# Altium footprint library 8-XFDFN-2x3.PcbLib: 1 footprints
Each footprint in its own frame and in the unit in brackets; x right, y up, seen from the top. Pads: shape width x height; smd on the part's side, far side on the other; paste and mask are expansions set on the pad; w line width, h text height; cw(c..) or ccw(c..) is an arc to the next point about the centre after c.
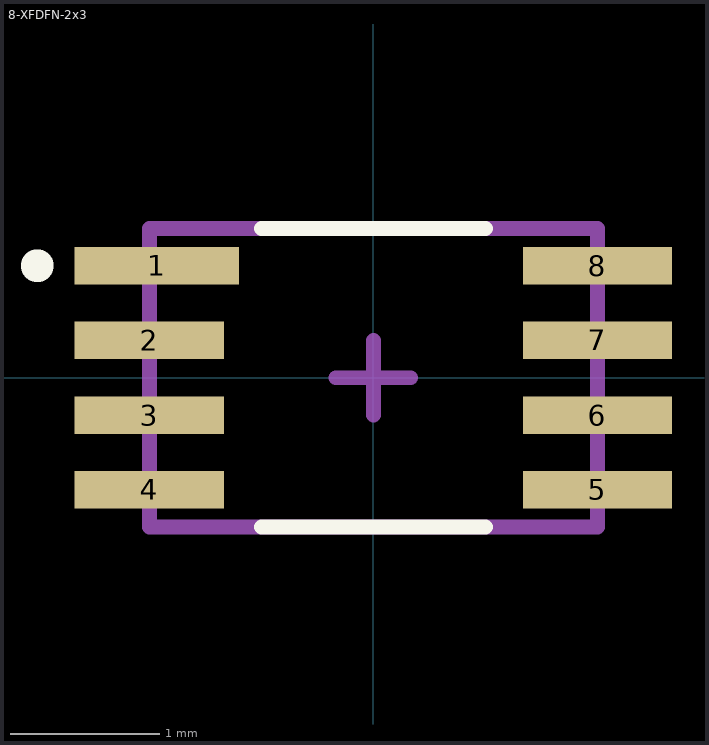
[diagram p0: the footprint, top view; thin cyan lines are the x and y axes]

## 8-XFDFN-2x3 [mm]
pads (8):
  rect 1.1x0.25 smd mask+0.051: 1(-1.45,0.75)
  rect 1x0.25 smd mask+0.051: 2(-1.5,0.25) 3(-1.5,-0.25) 4(-1.5,-0.75) 5(1.5,-0.75) 6(1.5,-0.25) 7(1.5,0.25) 8(1.5,0.75)
Top Overlay:
  circle w0.2: c-2.25,0.75 r0.01
  lines w0.1: -0.75,-1 0.75,-1 ; -0.75,1 0.75,1
Mechanical 13:
  lines w0.1: -1.5,-1 1.5,-1 1.5,1 -1.5,1 -1.5,-1
Mechanical 15:
  lines w0.1: -0.25,0 0,0 ; 0,-0.25 0,0 ; 0,0.25 0,0 ; 0.25,0 0,0
3D body "8-XFDFN-2x3.STEP": height 0.51, standoff 0.01, extent -1.5,-1 1.5,1